# EAGLE library part BM13B-SRSS (library con-JST SH)
JST SH series header 1.00mm pitch disconnectable crimp style connectors, vertical (side entry type), 135 pins
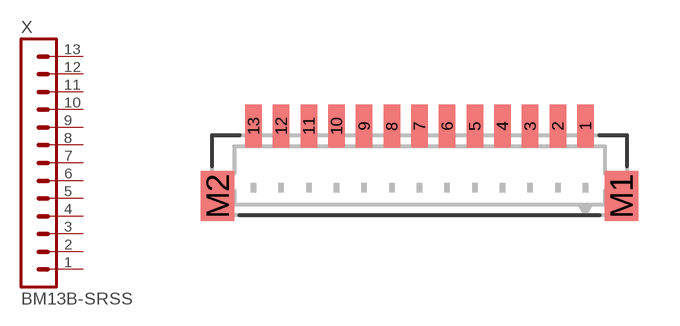
[diagram p7: symbol with the pads of BM13B-SRSS-TB; footprint BM13B-SRSS-TB]

Designator prefix X

## BM13B-SRSS-TB  [BM13B-SRSS-TB]
1  1  pas
2  2  pas
3  3  pas
4  4  pas
5  5  pas
6  6  pas
7  7  pas
8  8  pas
9  9  pas
10  10  pas
11  11  pas
12  12  pas
13  13  pas

## Footprint BM13B-SRSS-TB (pad centres in mm)
JST SH series header 1.00mm pitch disconnectable crimp style connectors, SMT vertical (top entry type), 13 pins
smd 0.6 x 1.55: 1 6,0; 2 5,0; 3 4,0; 4 3,0; 5 2,0; 6 1,0; 7 0,0; 8 -1,0; 9 -2,0; 10 -3,0; 11 -4,0; 12 -5,0; 13 -6,0
smd 1.2 x 1.8: M1 7.3,-2.525; M2 -7.3,-2.525